# EAGLE library part AM29FXXX (library jrodrigo-gameboy)
FLASH MEMORY
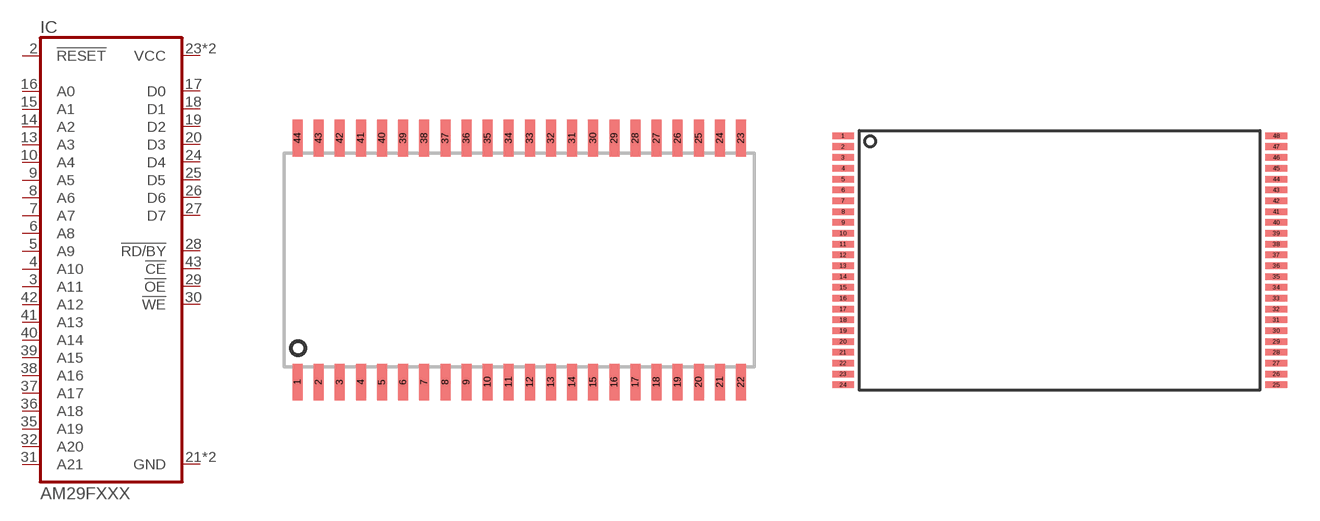
[diagram p0: symbol with the pads of SO44; footprints SO44, TSOP48]

Designator prefix IC

## AM29FXXX  [SO44]
2  !RESET  in
3  A11  in
4  A10  in
5  A9  in
6  A8  in
7  A7  in
8  A6  in
9  A5  in
10  A4  in
13  A3  in
14  A2  in
15  A1  in
16  A0  in
17  D0  hiz
18  D1  hiz
19  D2  hiz
20  D3  hiz
21  GND  pwr
22  GND  pwr
23  VCC  pwr
24  D4  hiz
25  D5  hiz
26  D6  hiz
27  D7  hiz
28  !RD/BY  out
29  !OE  in
30  !WE  in
31  A21  in
32  A20  in
35  A19  in
36  A18  in
37  A17  in
38  A16  in
39  A15  in
40  A14  in
41  A13  in
42  A12  in
43  !CE  in
44  VCC  pwr

## AM29FXXXTSOP48-STANDARD  [TSOP48]
3  A19  in
4  A18  in
5  A17  in
6  A16  in
7  A15  in
8  A14  in
9  A13  in
10  A12  in
11  !CE  in
12  VCC  pwr
14  !RESET  in
15  A11  in
16  A10  in
17  A9  in
18  A8  in
19  A7  in
20  A6  in
21  A5  in
22  A4  in
27  A3  in
28  A2  in
29  A1  in
30  A0  in
31  D0  hiz
32  D1  hiz
33  D2  hiz
34  D3  hiz
35  GND  pwr
36  GND  pwr
37  VCC  pwr
38  D4  hiz
39  D5  hiz
40  D6  hiz
41  D7  hiz
42  !RD/BY  out
43  !OE  in
44  !WE  in
45  A21  in
46  A20  in

## Footprint SO44 (pad centres in mm)
Small Outline Package
smd 0.6 x 2.2: 1 -13.335,-7.34; 2 -12.065,-7.34; 3 -10.795,-7.34; 4 -9.525,-7.34; 5 -8.255,-7.34; 6 -6.985,-7.34; 7 -5.715,-7.34; 8 -4.445,-7.34; 9 -3.175,-7.34; 10 -1.905,-7.34; 11 -0.635,-7.34; 12 0.635,-7.34; 13 1.905,-7.34; 14 3.175,-7.34; 15 4.445,-7.34; 16 5.715,-7.34; 17 6.985,-7.34; 18 8.255,-7.34; 19 9.525,-7.34; 20 10.795,-7.34; 21 12.065,-7.34; 22 13.335,-7.34; 23 13.335,7.34; 24 12.065,7.34; 25 10.795,7.34; 26 9.525,7.34; 27 8.255,7.34; 28 6.985,7.34; 29 5.715,7.34; 30 4.445,7.34; 31 3.175,7.34; 32 1.905,7.34; 33 0.635,7.34; 34 -0.635,7.34; 35 -1.905,7.34; 36 -3.175,7.34; 37 -4.445,7.34; 38 -5.715,7.34; 39 -6.985,7.34; 40 -8.255,7.34; 41 -9.525,7.34; 42 -10.795,7.34; 43 -12.065,7.34; 44 -13.335,7.34

## Footprint TSOP48 (pad centres in mm)
smd 1 x 0.3: 1 -10,5.75; 2 -10,5.25; 3 -10,4.75; 4 -10,4.25; 5 -10,3.75; 6 -10,3.25; 7 -10,2.75; 8 -10,2.25; 9 -10,1.75; 10 -10,1.25; 11 -10,0.75; 12 -10,0.25; 13 -10,-0.25; 14 -10,-0.75; 15 -10,-1.25; 16 -10,-1.75; 17 -10,-2.25; 18 -10,-2.75; 19 -10,-3.25; 20 -10,-3.75; 21 -10,-4.25; 22 -10,-4.75; 23 -10,-5.25; 24 -10,-5.75; 25 10,-5.75; 26 10,-5.25; 27 10,-4.75; 28 10,-4.25; 29 10,-3.75; 30 10,-3.25; 31 10,-2.75; 32 10,-2.25; 33 10,-1.75; 34 10,-1.25; 35 10,-0.75; 36 10,-0.25; 37 10,0.25; 38 10,0.75; 39 10,1.25; 40 10,1.75; 41 10,2.25; 42 10,2.75; 43 10,3.25; 44 10,3.75; 45 10,4.25; 46 10,4.75; 47 10,5.25; 48 10,5.75